# EAGLE library part HEADER-1X8 (library old-4ms-main-parts)
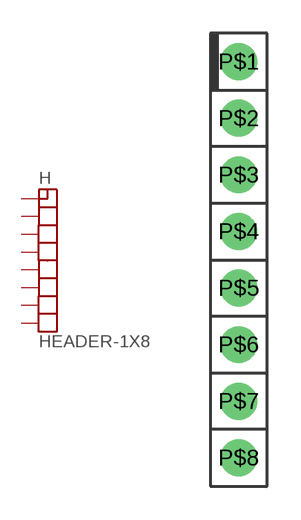
[diagram p20: symbol with the pads of HEADER-1X8-TH; footprint HEADER-1X8-TH]

Designator prefix H

## HEADER-1X8  [HEADER-1X8-TH]
P$1  P$1
P$2  P$2
P$3  P$3
P$4  P$4
P$5  P$5
P$6  P$6
P$7  P$7
P$8  P$8

## Footprint HEADER-1X8-TH (pad centres in mm)
drill 0.9 pad 1.651: P$1 0,6.35; P$2 0,3.81; P$3 0,1.27; P$4 0,-1.27; P$5 0,-3.81; P$6 0,-6.35; P$7 0,-8.89; P$8 0,-11.43